# EAGLE library part SIM_CARD_6P (library Eagle_CAD_parts)
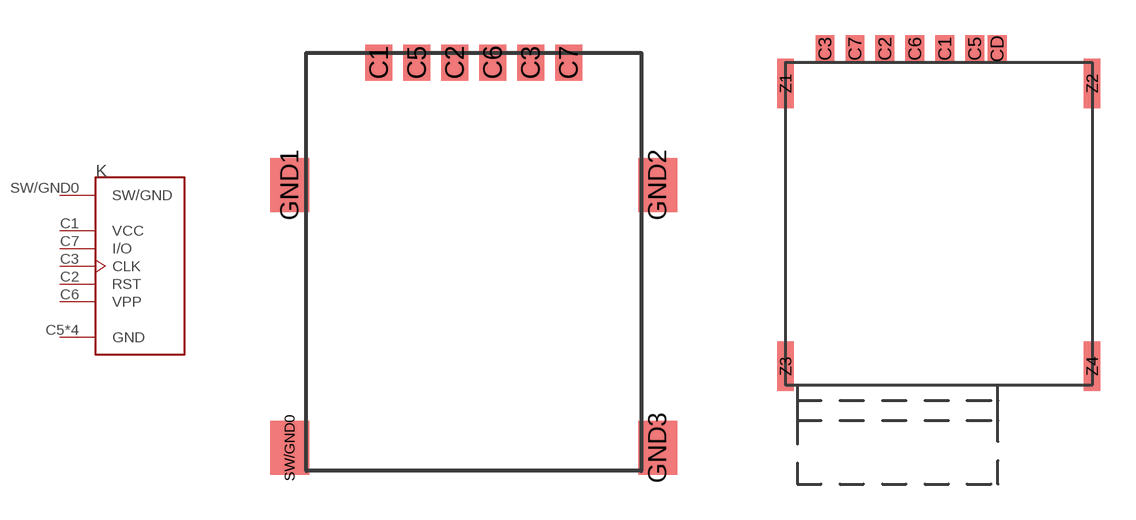
[diagram p52: symbol with the pads of SIM8060-6-X-14-00-A; footprints SIM8060-6-X-14-00-A, SIM8065-6-1-14-01-A]

Designator prefix K

## SIM_CARD_6P_SIM8060_W/SW (DIGIKEY_PART_NUMBER: 2073-SIM8060-6-1-14-00-ACT-ND; MANUFACTURER_PART_NUMBER: SIM8060-6-1-14-00-A; SIM_SIZE: Nano; TYPE: Hinge)  [SIM8060-6-X-14-00-A]
C1  VCC  pwr
C2  RST  in
C3  CLK  in
C5  GND  pwr
C6  VPP  pwr
C7  I/O
GND1  GND  pwr
GND2  GND  pwr
GND3  GND  pwr
SW/GND0  SW/GND

## SIM_CARD_6P_SIM8065_W/SW (DIGIKEY_PART_NUMBER: 2073-SIM8065-6-1-14-01-ACT-ND; MANUFACTURER_PART_NUMBER: SIM8065-6-1-14-01-A; SIM_SIZE: Nano; TYPE: PUSH-PUSH)  [SIM8065-6-1-14-01-A]
C1  VCC  pwr
C2  RST  in
C3  CLK  in
C5  GND  pwr
C6  VPP  pwr
C7  I/O
CD  SW/GND
Z1  GND  pwr
Z2  GND  pwr
Z3  GND  pwr
Z4  GND  pwr

## Footprint SIM8060-6-X-14-00-A (pad centres in mm)
smd 0.9 x 1.2: C1 -3.175,4.1; C2 -0.635,4.1; C3 1.905,4.1; C5 -1.905,4.1; C6 0.635,4.1; C7 3.175,4.1
smd 1.3 x 1.8: GND1 -6.155,0; GND2 6.155,0; GND3 6.155,-8.8; SW/GND0 -6.155,-8.8

## Footprint SIM8065-6-1-14-01-A (pad centres in mm)
smd 0.8 x 1.14: C1 0.25,7.48; C2 -2.29,7.48; C3 -4.83,7.48; C5 1.52,7.48; C6 -1.02,7.48; C7 -3.56,7.48; CD 2.47,7.48
smd 0.7 x 2.1: Z1 -6.5,6; Z2 6.5,6; Z3 -6.5,-6; Z4 6.5,-6